# EAGLE library part MEGA2560 (library TABOR K1)
ARDUINO MEGA2560
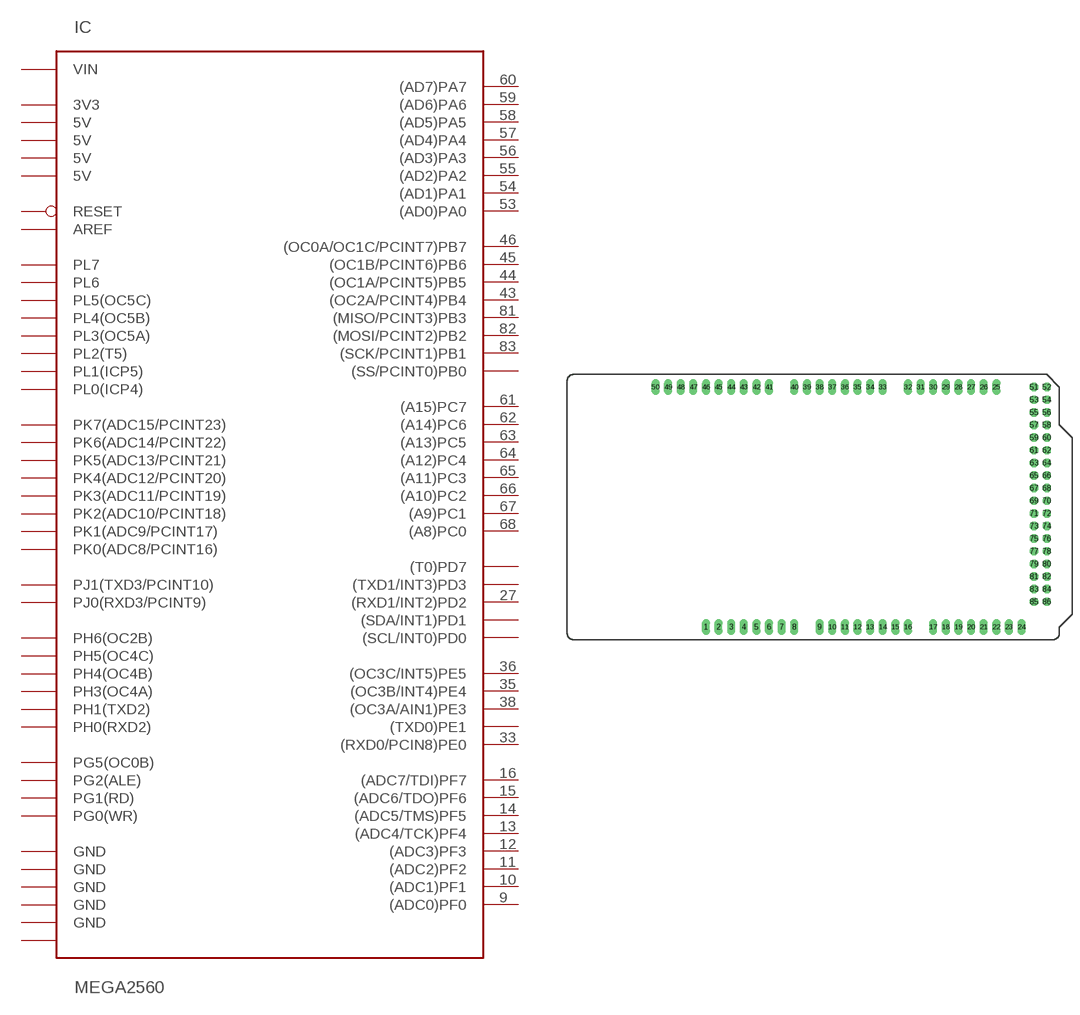
[diagram p40: symbol with the pads of MEGA2560; footprint MEGA2560]

Designator prefix IC

## MEGA2560D  [MEGA2560]
9  (ADC0)PF0
10  (ADC1)PF1
11  (ADC2)PF2
12  (ADC3)PF3
13  (ADC4/TCK)PF4
14  (ADC5/TMS)PF5
15  (ADC6/TDO)PF6
16  (ADC7/TDI)PF7
27  (RXD1/INT2)PD2
33  (RXD0/PCIN8)PE0
35  (OC3B/INT4)PE4
36  (OC3C/INT5)PE5
38  (OC3A/AIN1)PE3
43  (OC2A/PCINT4)PB4
44  (OC1A/PCINT5)PB5
45  (OC1B/PCINT6)PB6
46  (OC0A/OC1C/PCINT7)PB7
53  (AD0)PA0
54  (AD1)PA1
55  (AD2)PA2
56  (AD3)PA3
57  (AD4)PA4
58  (AD5)PA5
59  (AD6)PA6
60  (AD7)PA7
61  (A15)PC7
62  (A14)PC6
63  (A13)PC5
64  (A12)PC4
65  (A11)PC3
66  (A10)PC2
67  (A9)PC1
68  (A8)PC0
81  (MISO/PCINT3)PB3
82  (MOSI/PCINT2)PB2
83  (SCK/PCINT1)PB1

## Footprint MEGA2560 (pad centres in mm)
Arduino MEGA2560 : kolik= 0,6x0,6mm, diera s pokovenim = 0,9mm, vrtanie = 1,1mm
drill 1.092 pad 1.422 long: 1 -22.86,-22.86; 2 -20.32,-22.86; 3 -17.78,-22.86; 4 -15.24,-22.86; 5 -12.7,-22.86; 6 -10.16,-22.86; 7 -7.62,-22.86; 8 -5.08,-22.86; 9 0,-22.86; 10 2.54,-22.86; 11 5.08,-22.86; 12 7.62,-22.86; 13 10.16,-22.86; 14 12.7,-22.86; 15 15.24,-22.86; 16 17.78,-22.86; 17 22.86,-22.86; 18 25.4,-22.86; 19 27.94,-22.86; 20 30.48,-22.86; 21 33.02,-22.86; 22 35.56,-22.86; 23 38.1,-22.86; 24 40.64,-22.86; 25 35.56,25.4; 26 33.02,25.4; 27 30.48,25.4; 28 27.94,25.4; 29 25.4,25.4; 30 22.86,25.4; 31 20.32,25.4; 32 17.78,25.4; 33 12.7,25.4; 34 10.16,25.4; 35 7.62,25.4; 36 5.08,25.4; 37 2.54,25.4; 38 0,25.4; 39 -2.54,25.4; 40 -5.08,25.4; 41 -10.16,25.4; 42 -12.7,25.4; 43 -15.24,25.4; 44 -17.78,25.4; 45 -20.32,25.4; 46 -22.86,25.4; 47 -25.4,25.4; 48 -27.94,25.4; 49 -30.48,25.4; 50 -33.02,25.4
drill 1.092 pad 1.676 octagon: 51 43.18,25.4; 52 45.72,25.4; 53 43.18,22.86; 54 45.72,22.86; 55 43.18,20.32; 56 45.72,20.32; 57 43.18,17.78; 58 45.72,17.78; 59 43.18,15.24; 60 45.72,15.24; 61 43.18,12.7; 62 45.72,12.7; 63 43.18,10.16; 64 45.72,10.16; 65 43.18,7.62; 66 45.72,7.62; 67 43.18,5.08; 68 45.72,5.08; 69 43.18,2.54; 70 45.72,2.54; 71 43.18,0; 72 45.72,0; 73 43.18,-2.54; 74 45.72,-2.54; 75 43.18,-5.08; 76 45.72,-5.08; 77 43.18,-7.62; 78 45.72,-7.62; 79 43.18,-10.16; 80 45.72,-10.16; 81 43.18,-12.7; 82 45.72,-12.7; 83 43.18,-15.24; 84 45.72,-15.24; 85 43.18,-17.78; 86 45.72,-17.78